# Altium schematic symbol library 74xxx1G08G.Schlib: 1 symbol
Pins are listed as number, name and electrical type; pins without a type are passive.

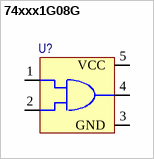
[diagram p0: symbol 74xxx1G08G]

## 74xxx1G08G
designator U?
pins: 1 A, 2 B, 3 GND (power), 4 Y, 5 VCC (power)